# Altium integrated library HEADER RES 3.IntLib: 1 symbol
Pins are listed as number, name and electrical type; pins without a type are passive.

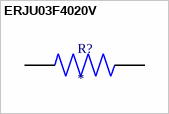
[diagram p0: symbol ERJU03F4020V]

## ERJU03F4020V
designator R?
MP: ERJU03F4020V; Price: None; Availability: Unavailable; Value: *; Package: None
footprint RES_ERJU03F4020V
pins: 1, 2